# Altium schematic symbol library ZXMS6004FFQTA.SchLib: 1 symbol
Pins are listed as number, name and electrical type; pins without a type are passive.

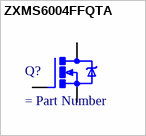
[diagram p0: symbol ZXMS6004FFQTA]

## ZXMS6004FFQTA
designator Q?
= Description; MP: ZXMS6004FFQTA; Package: None; Price: None; Value: *; Availability: Unavailable
footprint ZXMS6004FFQTA
pins: 1, 2, 3